# EAGLE library part AT32UC3A1512/1256/1128 (library atmel-avr32)
AT32UC3A1512/1256/1128
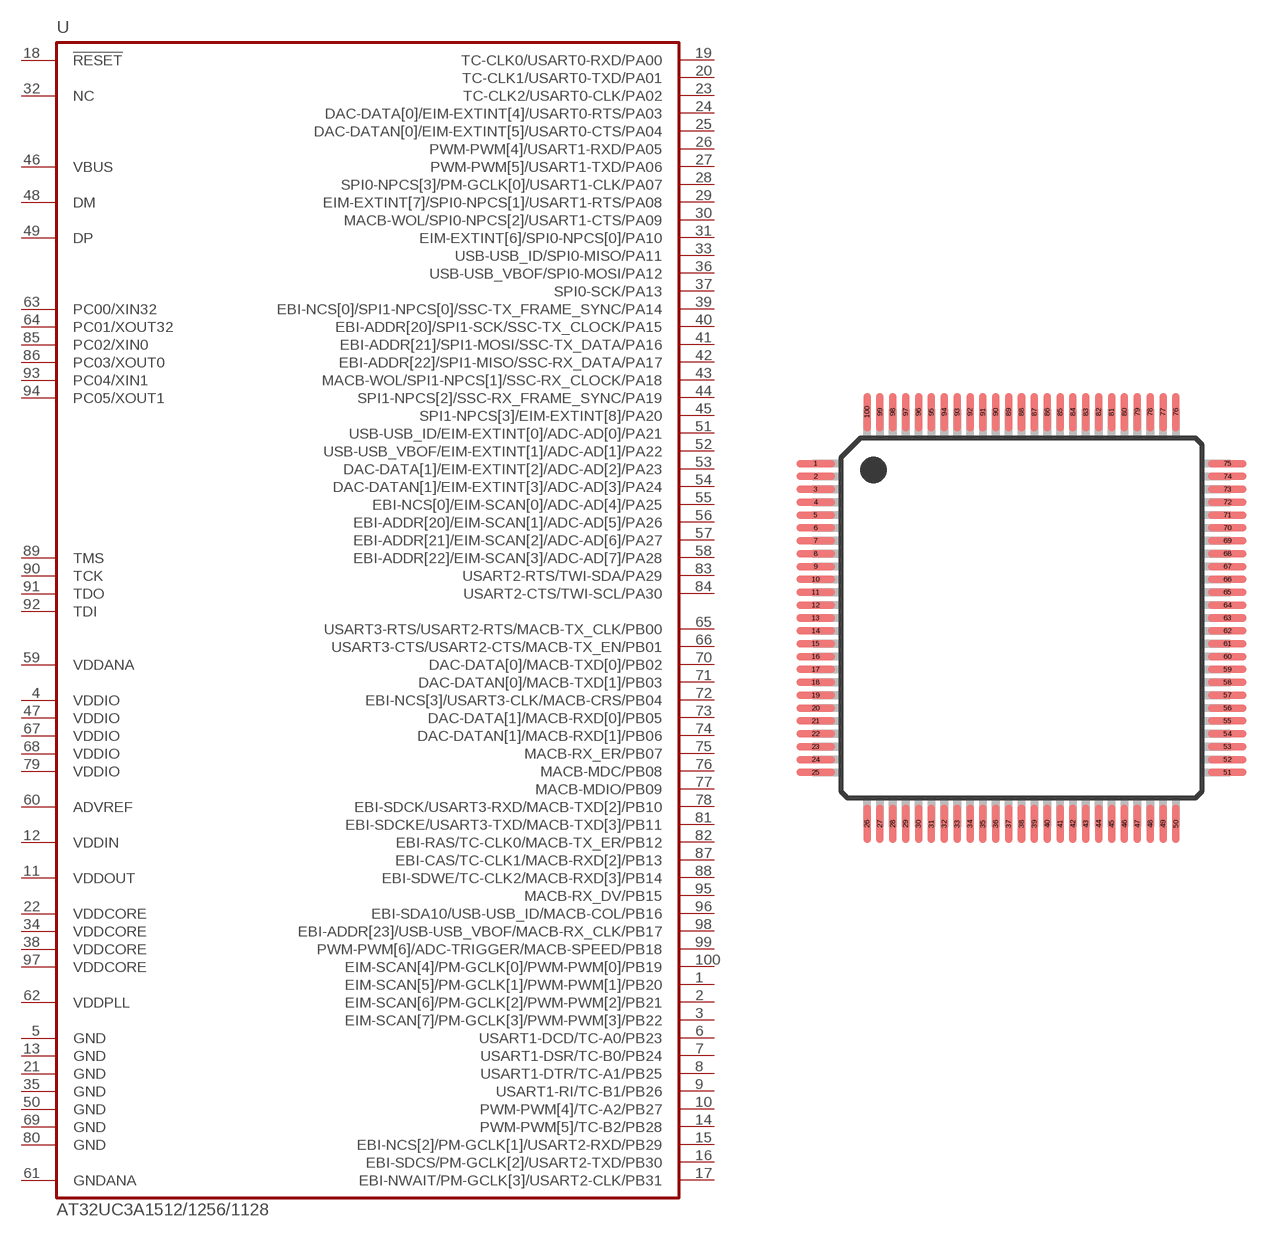
[diagram p0: symbol with the pads of TQFP100; footprint TQFP100]

Designator prefix U

## AT32UC3A1512/1256/1128  [TQFP100]
1  EIM-SCAN[5]/PM-GCLK[1]/PWM-PWM[1]/PB20
2  EIM-SCAN[6]/PM-GCLK[2]/PWM-PWM[2]/PB21
3  EIM-SCAN[7]/PM-GCLK[3]/PWM-PWM[3]/PB22
4  VDDIO  pwr
5  GND  pwr
6  USART1-DCD/TC-A0/PB23
7  USART1-DSR/TC-B0/PB24
8  USART1-DTR/TC-A1/PB25
9  USART1-RI/TC-B1/PB26
10  PWM-PWM[4]/TC-A2/PB27
11  VDDOUT  pwr
12  VDDIN  pwr
13  GND  pwr
14  PWM-PWM[5]/TC-B2/PB28
15  EBI-NCS[2]/PM-GCLK[1]/USART2-RXD/PB29
16  EBI-SDCS/PM-GCLK[2]/USART2-TXD/PB30
17  EBI-NWAIT/PM-GCLK[3]/USART2-CLK/PB31
18  !RESET  in
19  TC-CLK0/USART0-RXD/PA00
20  TC-CLK1/USART0-TXD/PA01
21  GND  pwr
22  VDDCORE  pwr
23  TC-CLK2/USART0-CLK/PA02
24  DAC-DATA[0]/EIM-EXTINT[4]/USART0-RTS/PA03
25  DAC-DATAN[0]/EIM-EXTINT[5]/USART0-CTS/PA04
26  PWM-PWM[4]/USART1-RXD/PA05
27  PWM-PWM[5]/USART1-TXD/PA06
28  SPI0-NPCS[3]/PM-GCLK[0]/USART1-CLK/PA07
29  EIM-EXTINT[7]/SPI0-NPCS[1]/USART1-RTS/PA08
30  MACB-WOL/SPI0-NPCS[2]/USART1-CTS/PA09
31  EIM-EXTINT[6]/SPI0-NPCS[0]/PA10
32  NC  nc
33  USB-USB_ID/SPI0-MISO/PA11
34  VDDCORE  pwr
35  GND  pwr
36  USB-USB_VBOF/SPI0-MOSI/PA12
37  SPI0-SCK/PA13
38  VDDCORE  pwr
39  EBI-NCS[0]/SPI1-NPCS[0]/SSC-TX_FRAME_SYNC/PA14
40  EBI-ADDR[20]/SPI1-SCK/SSC-TX_CLOCK/PA15
41  EBI-ADDR[21]/SPI1-MOSI/SSC-TX_DATA/PA16
42  EBI-ADDR[22]/SPI1-MISO/SSC-RX_DATA/PA17
43  MACB-WOL/SPI1-NPCS[1]/SSC-RX_CLOCK/PA18
44  SPI1-NPCS[2]/SSC-RX_FRAME_SYNC/PA19
45  SPI1-NPCS[3]/EIM-EXTINT[8]/PA20
46  VBUS
47  VDDIO  pwr
48  DM
49  DP
50  GND  pwr
51  USB-USB_ID/EIM-EXTINT[0]/ADC-AD[0]/PA21
52  USB-USB_VBOF/EIM-EXTINT[1]/ADC-AD[1]/PA22
53  DAC-DATA[1]/EIM-EXTINT[2]/ADC-AD[2]/PA23
54  DAC-DATAN[1]/EIM-EXTINT[3]/ADC-AD[3]/PA24
55  EBI-NCS[0]/EIM-SCAN[0]/ADC-AD[4]/PA25
56  EBI-ADDR[20]/EIM-SCAN[1]/ADC-AD[5]/PA26
57  EBI-ADDR[21]/EIM-SCAN[2]/ADC-AD[6]/PA27
58  EBI-ADDR[22]/EIM-SCAN[3]/ADC-AD[7]/PA28
59  VDDANA  pwr
60  ADVREF  pwr
61  GNDANA  pwr
62  VDDPLL  pwr
63  PC00/XIN32
64  PC01/XOUT32
65  USART3-RTS/USART2-RTS/MACB-TX_CLK/PB00
66  USART3-CTS/USART2-CTS/MACB-TX_EN/PB01
67  VDDIO  pwr
68  VDDIO  pwr
69  GND  pwr
70  DAC-DATA[0]/MACB-TXD[0]/PB02
71  DAC-DATAN[0]/MACB-TXD[1]/PB03
72  EBI-NCS[3]/USART3-CLK/MACB-CRS/PB04
73  DAC-DATA[1]/MACB-RXD[0]/PB05
74  DAC-DATAN[1]/MACB-RXD[1]/PB06
75  MACB-RX_ER/PB07
76  MACB-MDC/PB08
77  MACB-MDIO/PB09
78  EBI-SDCK/USART3-RXD/MACB-TXD[2]/PB10
79  VDDIO  pwr
80  GND  pwr
81  EBI-SDCKE/USART3-TXD/MACB-TXD[3]/PB11
82  EBI-RAS/TC-CLK0/MACB-TX_ER/PB12
83  USART2-RTS/TWI-SDA/PA29
84  USART2-CTS/TWI-SCL/PA30
85  PC02/XIN0
86  PC03/XOUT0
87  EBI-CAS/TC-CLK1/MACB-RXD[2]/PB13
88  EBI-SDWE/TC-CLK2/MACB-RXD[3]/PB14
89  TMS
90  TCK
91  TDO
92  TDI
93  PC04/XIN1
94  PC05/XOUT1
95  MACB-RX_DV/PB15
96  EBI-SDA10/USB-USB_ID/MACB-COL/PB16
97  VDDCORE  pwr
98  EBI-ADDR[23]/USB-USB_VBOF/MACB-RX_CLK/PB17
99  PWM-PWM[6]/ADC-TRIGGER/MACB-SPEED/PB18
100  EIM-SCAN[4]/PM-GCLK[0]/PWM-PWM[0]/PB19

## Footprint TQFP100 (pad centres in mm)
Plastic Thin Quad Flat Pack
smd 1.5 x 0.3: 1 -8,6; 2 -8,5.5; 3 -8,5; 4 -8,4.5; 5 -8,4; 6 -8,3.5; 7 -8,3; 8 -8,2.5; 9 -8,2; 10 -8,1.5; 11 -8,1; 12 -8,0.5; 13 -8,0; 14 -8,-0.5; 15 -8,-1; 16 -8,-1.5; 17 -8,-2; 18 -8,-2.5; 19 -8,-3; 20 -8,-3.5; 21 -8,-4; 22 -8,-4.5; 23 -8,-5; 24 -8,-5.5; 25 -8,-6; 51 8,-6; 52 8,-5.5; 53 8,-5; 54 8,-4.5; 55 8,-4; 56 8,-3.5; 57 8,-3; 58 8,-2.5; 59 8,-2; 60 8,-1.5; 61 8,-1; 62 8,-0.5; 63 8,0; 64 8,0.5; 65 8,1; 66 8,1.5; 67 8,2; 68 8,2.5; 69 8,3; 70 8,3.5; 71 8,4; 72 8,4.5; 73 8,5; 74 8,5.5; 75 8,6
smd 0.3 x 1.5: 26 -6,-8; 27 -5.5,-8; 28 -5,-8; 29 -4.5,-8; 30 -4,-8; 31 -3.5,-8; 32 -3,-8; 33 -2.5,-8; 34 -2,-8; 35 -1.5,-8; 36 -1,-8; 37 -0.5,-8; 38 0,-8; 39 0.5,-8; 40 1,-8; 41 1.5,-8; 42 2,-8; 43 2.5,-8; 44 3,-8; 45 3.5,-8; 46 4,-8; 47 4.5,-8; 48 5,-8; 49 5.5,-8; 50 6,-8; 76 6,8; 77 5.5,8; 78 5,8; 79 4.5,8; 80 4,8; 81 3.5,8; 82 3,8; 83 2.5,8; 84 2,8; 85 1.5,8; 86 1,8; 87 0.5,8; 88 0,8; 89 -0.5,8; 90 -1,8; 91 -1.5,8; 92 -2,8; 93 -2.5,8; 94 -3,8; 95 -3.5,8; 96 -4,8; 97 -4.5,8; 98 -5,8; 99 -5.5,8; 100 -6,8